# Altium footprint library Connectors.PcbLib: 14 footprints
Each footprint in its own frame and in the unit in brackets; x right, y up, seen from the top. Pads: shape width x height; smd on the part's side, far side on the other; paste and mask are expansions set on the pad; w line width, h text height; cw(c..) or ccw(c..) is an arc to the next point about the centre after c.
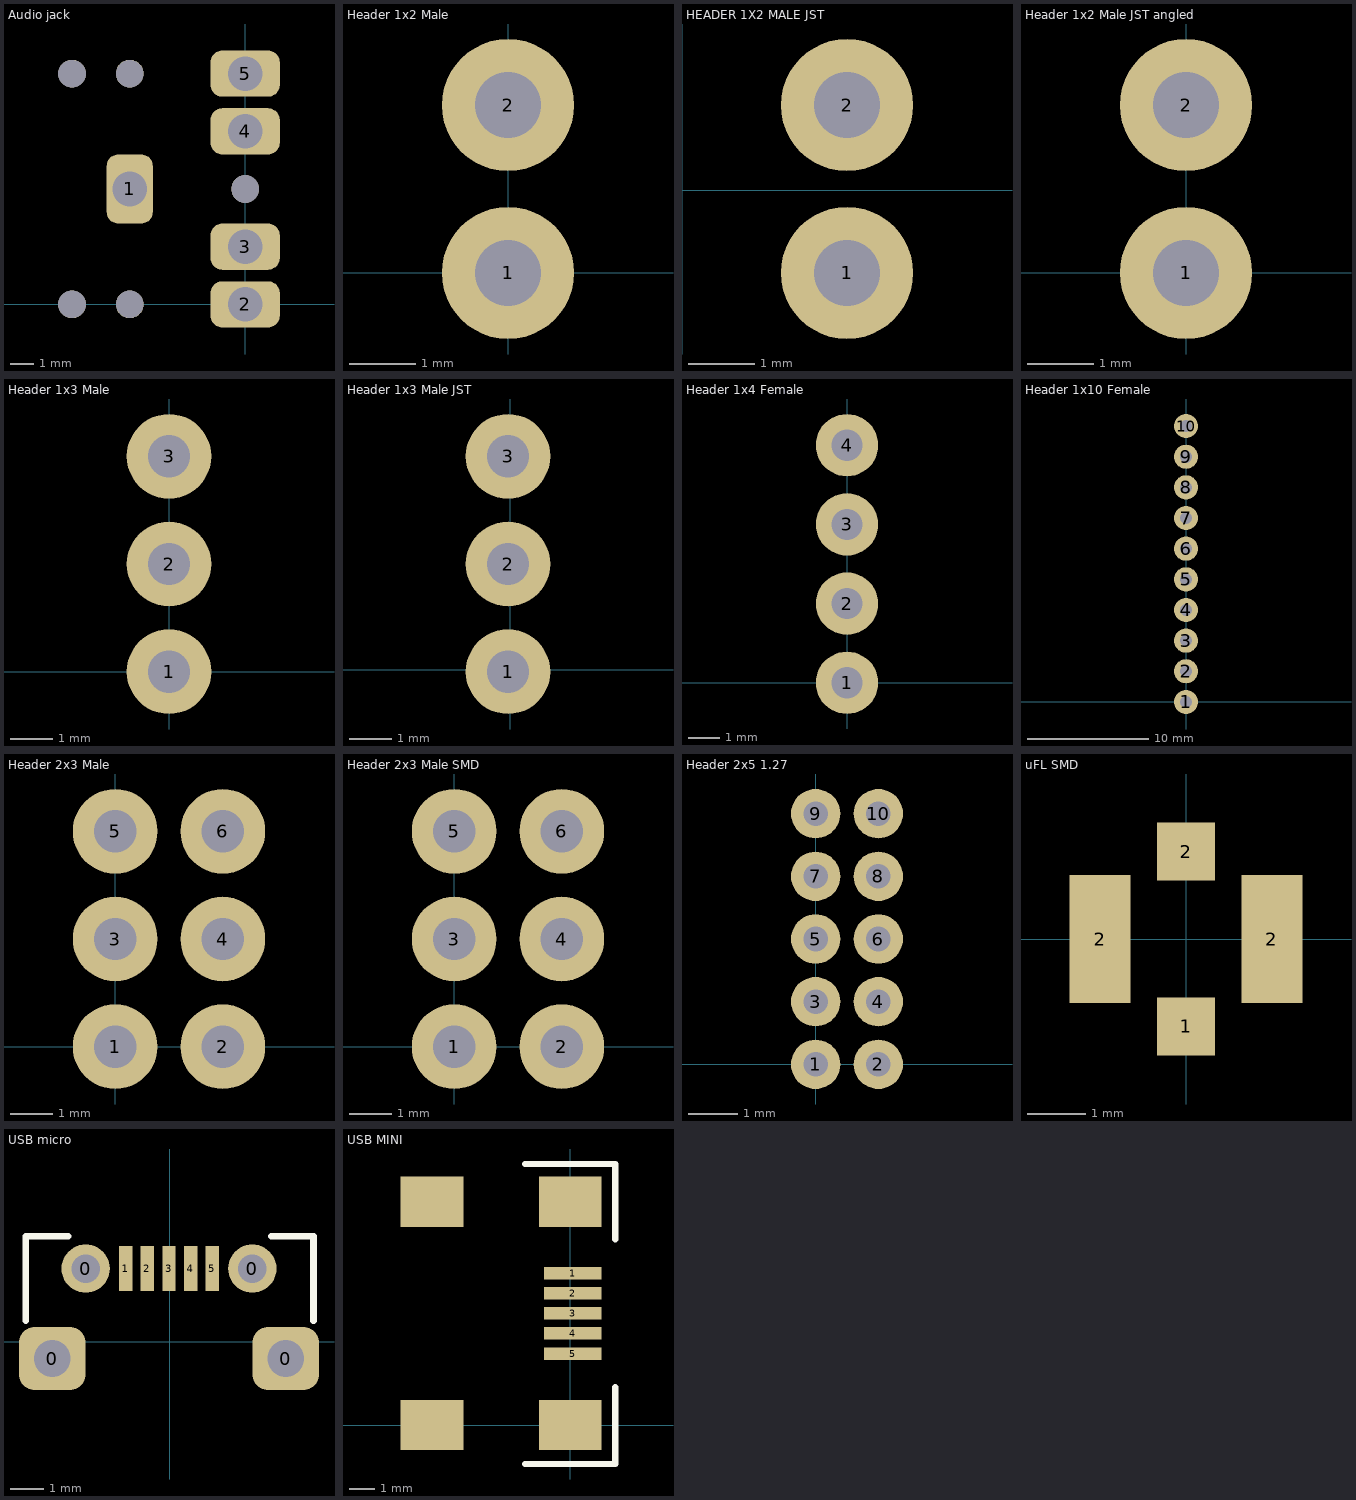
[diagram p0: the footprints below, top view; thin cyan lines are the x and y axes]

## Audio jack [mm]
pads (10):
  rrect50% 2x3 hole 1.5: 1(-5,5)
  rrect50% 3x2 hole 1.5: 2(0,0) 3(0,2.5) 4(0,7.5) 5(0,10)
  round 1.2 hole 1.2: ""(-7.5,0) ""(-7.5,10) ""(-5,0) ""(-5,10) ""(0,5)
3D body "sj1-3523ng.stp": height 5.6, standoff -3.2, extent -11.575,-0.95 2.475,11.05

## Header 1x2 Male [mm]
pads (2):
  round 2 hole 1: 1(0,0) 2(0,2.54)
3D body "CircuitWorks-HEADER 2_54 VERTICAL 2X.STEP": height 8.55, standoff -2.45, extent -1.25,-1.27 1.25,3.81

## HEADER 1X2 MALE JST [mm]
pads (2):
  round 2 hole 1: 1(2.5,-1.25) 2(2.5,1.29)
3D body "User Library-CONN, HDR, 2_5mm X 2.step": height 7.11, standoff -3.81, extent -0.89,-3.696 4.85,3.696

## Header 1x2 Male JST angled [mm]
pads (2):
  round 2 hole 1: 1(0,0) 2(0,2.54)
3D body "22-12-4022.stp": height 6.37, standoff -3.27, extent -0.35,-1.24 14.388,3.84

## Header 1x3 Male [mm]
pads (3):
  round 2 hole 1: 1(0,0) 2(0,2.54) 3(0,5.08)
3D body "22-05-3031.stp": height 6.68, standoff -3.26, extent -12.527,-1.31 0.3,6.31

## Header 1x3 Male JST [mm]
pads (3):
  round 2 hole 1: 1(-0.05,-0.05) 2(-0.05,2.49) 3(-0.05,5.03)
3D body "User Library-B3B-XH-A.STEP": height 7, standoff -3.4, extent -3.45,-2.46 2.3,7.44

## Header 1x4 Female [mm]
pads (4):
  round 2 hole 1: 1(0,0) 2(0,2.54) 3(0,5.08) 4(0,7.62)
3D body "User Library-ZL262-4SG.STEP": height 8.4, standoff -3.15, extent -1.25,-1.27 1.25,8.89

## Header 1x10 Female [mm]
pads (10):
  round 2 hole 1: 1(0,0) 2(0,2.54) 3(0,5.08) 4(0,7.62) 5(0,10.16) 6(0,12.7) 7(0,15.24) 8(0,17.78) 9(0,20.32) 10(0,22.86)
3D body "User Library-Header female  10 pos pitch 2,54 mm.STEP": height 8.5, standoff -3.2, extent -1.27,-1.27 1.27,24.13

## Header 2x3 Male [mm]
pads (6):
  round 2 hole 1: 1(0,0) 2(2.54,0) 3(0,2.54) 4(2.54,2.54) 5(0,5.08) 6(2.54,5.08)
3D body "User Library-HEADER, 2X3, 2_54MM X 2_54MM PITCH, VERT, TH.STEP": height 8.38, standoff -3.81, extent -1.27,-1.27 3.81,6.35

## Header 2x3 Male SMD [mm]
pads (6):
  round 2 hole 1: 1(0,0) 2(2.54,0) 3(0,2.54) 4(2.54,2.54) 5(0,5.08) 6(2.54,5.08)

## Header 2x5 1.27 [mm]
pads (10):
  round 1 hole 0.5: 1(0,0) 2(1.27,0) 3(0,1.27) 4(1.27,1.27) 5(0,2.54) 6(1.27,2.54) 7(0,3.81) 8(1.27,3.81) 9(0,5.08) 10(1.27,5.08)
3D body "User Library-3220-10-0100.STEP": height 5.4, standoff -2.1, extent -1.9,-3.825 3.23,8.825

## uFL SMD [mm] "Antenna connector"
pads (4):
  rect 1x1 smd: 1(0,-1.5) 2(0,1.5)
  rect 1.05x2.2 smd: 2(-1.475,0) 2(1.475,0)
3D body "User Library-UFL-R-SMD.STEP": height 1.25, standoff 0, extent -1.7,-1.55 1.7,1.55
3D body "User Library-Antenna AP24A.STEP": height 20, standoff 1, extent -5.25,-4.611 5.25,46.75

## USB micro [mm]
pads (9):
  rrect50% 2x1.9 hole 1.1 unplated: 0(-3.517,-0.5) 0(3.483,-0.5)
  round 1.45 hole 0.85 unplated: 0(-2.517,2.2) 0(2.483,2.2)
  rect 0.4x1.35 smd: 1(-1.317,2.2) 2(-0.667,2.2) 3(-0.017,2.2) 4(0.633,2.2) 5(1.283,2.2)
Top Overlay:
  lines w0.2: -4.318,0.635 -4.318,3.175 -3.048,3.175 ; 3.048,3.175 4.318,3.175 4.318,0.635
3D body "User Library-MicroUSB-B_Molex_105017-0001.STEP": height 0.23, standoff -3.08, extent -4.1,-3.034 4.1,2.396

## USB MINI [mm]
pads (9):
  rect 2.3x0.5 smd: 1(0.1,6.05) 2(0.1,5.25) 3(0.1,4.45) 4(0.1,3.65) 5(0.1,2.85)
  rect 2.5x2 smd: ""(-5.5,0) ""(-5.5,8.9) ""(0,0) ""(0,8.9)
Top Overlay:
  lines w0.254: -1.8,-1.55 1.8,-1.55 1.8,1.5 ; -1.8,10.4 1.8,10.4 1.8,7.4
3D body "usb_a-usb_b-m5-smd-c.stp": height 3.93, standoff -1, extent -8.45,-0.35 0.8,9.55